# Altium schematic symbol library PDB.SchLib: 15 symbols
Pins are listed as number, name and electrical type; pins without a type are passive.

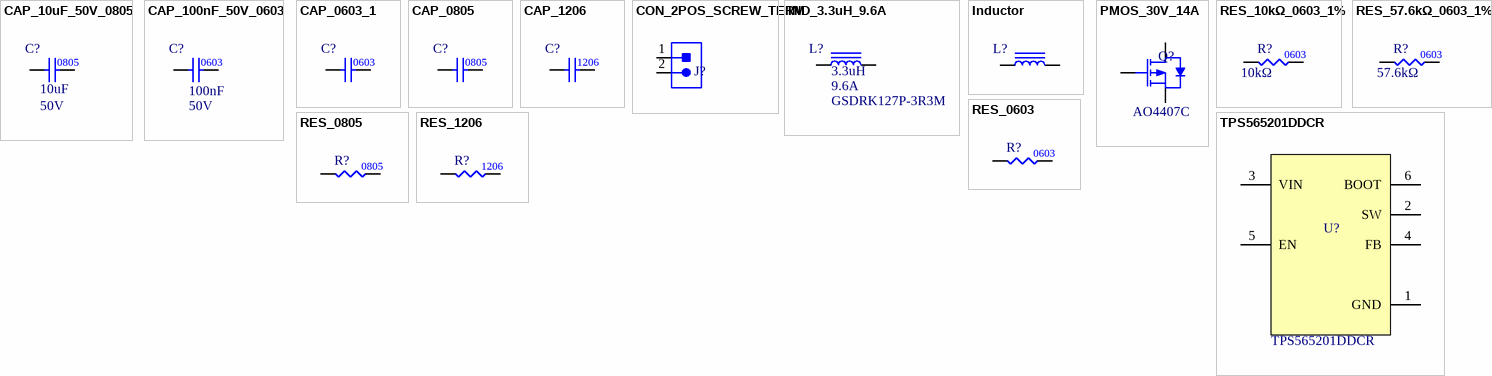
[diagram p0: symbols CAP_10uF_50V_0805 to TPS565201DDCR]

## CAP_10uF_50V_0805
designator C?  value 10uF  Voltage: 50V
CAP CER 10UF 50V X5R 0805; Manufacturer 1: Murata Electronics; Manufacturer Part Number 1: GRM21BR61H106KE43L; Tolerance: 10%; Supplier 1: LCSC; Supplier Part Number 1: C440198; Supplier 2: Digi-Key; Supplier Part Number 2: 490-18663-1-ND; Temperature Coefficient: X5R; Package: 0805; Mounting Type: Surface Mount
footprint CAP0805 (Chip Capacitor, Body 2.0x1.2mm, Height 0.45mm, IPC Medium Density)
pins: 1, 2

## CAP_100nF_50V_0603
designator C?  value 100nF  Voltage: 50V
CAP CER 100NF 50V X7R 0603; Manufacturer 1: KEMET; Manufacturer Part Number 1: C0603C104K5RACAUTO; Tolerance: 10%; Supplier 1: LCSC; Supplier Part Number 1: C129621; Temperature Coefficient: X7R; Package: 0603; Mounting Type: Surface Mount
footprint CAP0603
pins: 1, 2

## CAP_0603_1
designator C?
Generic 0603 cap
footprint CAP0603
pins: 1, 2
text: 0603

## CAP_0805
designator C?
Generic 0805 cap
footprint CAP0805 (Chip Capacitor, Body 2.0x1.2mm, Height 0.45mm, IPC Medium Density)
pins: 1, 2
text: 0805

## CAP_1206
designator C?
Generic 1206 cap
footprint CAP1206 (Chip Capacitor, Body 3.2x1.6mm, Height 0.55mm, IPC Medium Density)
pins: 1, 2
text: 1206

## CON_2POS_SCREW_TERM
designator J?
TERM BLK 2POS SIDE ENTRY 5MM; Manufacturer 1: Phoenix Contact; Manufacturer Part Number 1: 1935161; Package/Footprint: SMD; Supplier 1: Digi-Key; Mounting Type: TH; Supplier Part Number 1: 277-1667-ND
footprint 1935161 (TERM BLK 2POS SIDE ENTRY 5MM PCB)
pins: 1, 2

## IND_3.3uH_9.6A
designator L?  value 3.3uH  Current Rating: 9.6A  Manufacturer Part Number 1: GSDRK127P-3R3M
IND 3.3UH 9.6A 10M OHM 0805; Manufacturer 1: Gotrend Tech; Tolerance: 20%; Saturation Current: 18A; Test Frequency: 100kHz; DC Resistance: 10mΩ; Mounting Type: Surface Mount; Supplier 1: LCSC; Supplier Part Number 1: C142419
footprint GSDRK127P-3R3M
pins: 1, 2

## Inductor
designator L?
Generic inductor
pins: 1, 2

## PMOS_30V_14A
designator Q?  Manufacturer Part Number 1: AO4407C
MOSFET P-CH 30V 14A SO-8; Manufacturer 1: Alpha & Omega Semicon; Drain to Source On-Resistance: 18.5mΩ; Max Power Dissipation: 3.1W; Turn-Off Delay Time: 40ns; Turn-On Delay Time: 11ns; Gate to Source Voltage: 25V; Drain to Source Breakdown Voltage: -30V; Supplier 1: LCSC; Supplier Part Number 1: C469397; Drain to Source Voltage: 30V; Continuous Drain Current: 14A; Package: SO-8
footprint SO-8_PMOS_AO4407C
pins: 1 Source, 2 Gate, 3 Drain

## RES_10kΩ_0603_1%
designator R?  value 10kΩ
RES 10K OHM 1% 1/10W 0603; Manufacturer 1: Uniroyal Elec; Manufacturer Part Number 1: 0603WAF1002T5E; Supplier 1: LCSC; Supplier Part Number 1: C25804; Tolerance: 1%; Package: 0603; Mounting Type: Surface Mount
footprint RES0603 (Chip Resistor, Body 1.6x0.8mm, IPC Medium Density)
pins: 1, 2

## RES_57.6kΩ_0603_1%
designator R?  value 57.6kΩ
RES 57.6K OHM 1% 1/10W 0603; Manufacturer 1: Uniroyal Elec; Manufacturer Part Number 1: 0603WAF5762T5E; Supplier 1: LCSC; Supplier Part Number 1: C23082; Tolerance: 1%; Package: 0603; Mounting Type: Surface Mount
footprint RES0603 (Chip Resistor, Body 1.6x0.8mm, IPC Medium Density)
pins: 1, 2

## RES_0603
designator R?
Generic 0603 resistor
footprint RES0603 (Chip Resistor, Body 1.6x0.8mm, IPC Medium Density)
pins: 1, 2
text: 0603

## RES_0805
designator R?
Generic 0805 resistor
footprint RES0805 (Chip Resistor, 2-Leads, Body 2.00x1.25mm, IPC High Density)
pins: 1, 2
text: 0805

## RES_1206
designator R?
Generic 1206 resistor
footprint RES1206 (Chip Resistor, Body 3.2x1.6mm, IPC Medium Density)
pins: 1, 2
text: 1206

## TPS565201DDCR
designator U?  Manufacturer Part Number: TPS565201DDCR
IC REG BUCK ADJ 5A TSOT23-6; Manufacturer: Texas Instruments; Supplier 1: LCSC; Supplier Part Number 1: C327676; Mounting Type: Surface Mount; Package: SOT-23-6; ComponentLink1URL: http://www.ti.com/lit/ds/symlink/tps565201.pdf?src-supplier=Digi-Key; ComponentLink1Description: http://www.ti.com/lit/ds/symlink/tps565201.pdf?src-supplier=Digi-Key; Supplier 2: Digi-Key; Supplier Part Number 2: 296-49006-1-ND
footprint TPS565201DDCR (IC REG BUCK ADJ 5A TSOT23-6)
pins: 1 GND "Ground", 2 SW "Switch node", 3 VIN "Input voltage", 4 FB "Feedback", 5 EN "Enable. Active high", 6 BOOT "Bootstrap"